# EAGLE library part DS1306_TSSOP_PAK (library dallas-rtc)
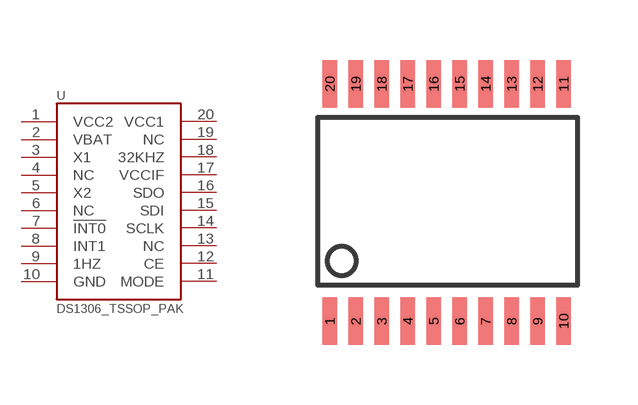
[diagram p3: symbol with the pads of TSSOP_20; footprint TSSOP_20]

Designator prefix -

## DS1306_TSSOP_PAK  [TSSOP_20]
1  VCC2
2  VBAT
3  X1
4  NC
5  X2
6  NC
7  !INT0
8  INT1
9  1HZ
10  GND
11  MODE
12  CE
13  NC
14  SCLK
15  SDI
16  SDO
17  VCCIF
18  32KHZ
19  NC
20  VCC1

## Footprint TSSOP_20 (pad centres in mm)
tssop 20 4.4mm
smd 0.36 x 1.19: 1 0,0; 2 0.65,0; 3 1.3,0; 4 1.95,0; 5 2.6,0; 6 3.25,0; 7 3.9,0; 8 4.55,0; 9 5.2,0; 10 5.85,0; 11 5.85,5.94; 12 5.2,5.94; 13 4.55,5.94; 14 3.9,5.94; 15 3.25,5.94; 16 2.6,5.94; 17 1.95,5.94; 18 1.3,5.94; 19 0.65,5.94; 20 0,5.94